# EAGLE library part LDL212 (library Parts)
LDO電圧レギュレータ 出力電流: 1.2 A 入力電圧最大値: 18 V 最低動作温度: - 40 C 最高動作温度: + 125 C ドロップアウト電圧: 350 mV
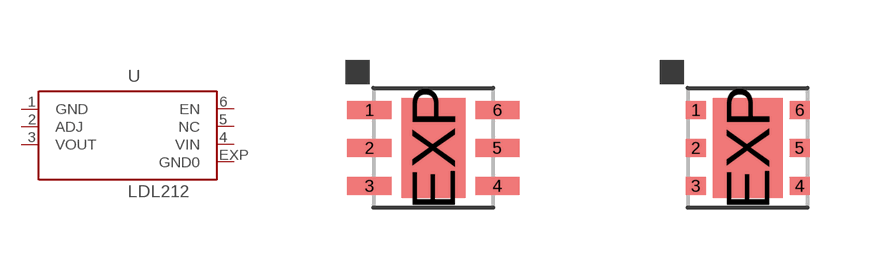
[diagram p23: symbol with the pads of DFN6-3X3_DEV; footprints DFN6-3X3_DEV, DFN6-3X3]

Designator prefix U

## LDL212PUR_  [DFN6-3X3_DEV]
1  GND  pas
2  ADJ
3  VOUT  pas
4  VIN  pas
5  NC  nc
6  EN
EXP  GND0  pas

## LDL212PUR  [DFN6-3X3]
Pads as for DFN6-3X3_DEV

## Footprint DFN6-3X3_DEV (pad centres in mm)
DFN6 3x3 mm package 手はんだ用パターン
smd 1.1 x 0.45: 1 -1.6,0.95; 2 -1.6,0; 3 -1.6,-0.95; 4 1.6,-0.95; 5 1.6,0; 6 1.6,0.95
smd 1.6 x 2.5: EXP 0,0

## Footprint DFN6-3X3 (pad centres in mm)
DFN6 3x3 mm package
smd 0.5 x 0.45: 1 -1.3,0.95; 2 -1.3,0; 3 -1.3,-0.95; 4 1.3,-0.95; 5 1.3,0; 6 1.3,0.95
smd 1.75 x 2.5: EXP 0,0